# Altium integrated library Dallas Memory Asynchronous FIFO.IntLib: 59 symbols (part 1 of 2)
Pins are listed as number, name and electrical type; pins without a type are passive.

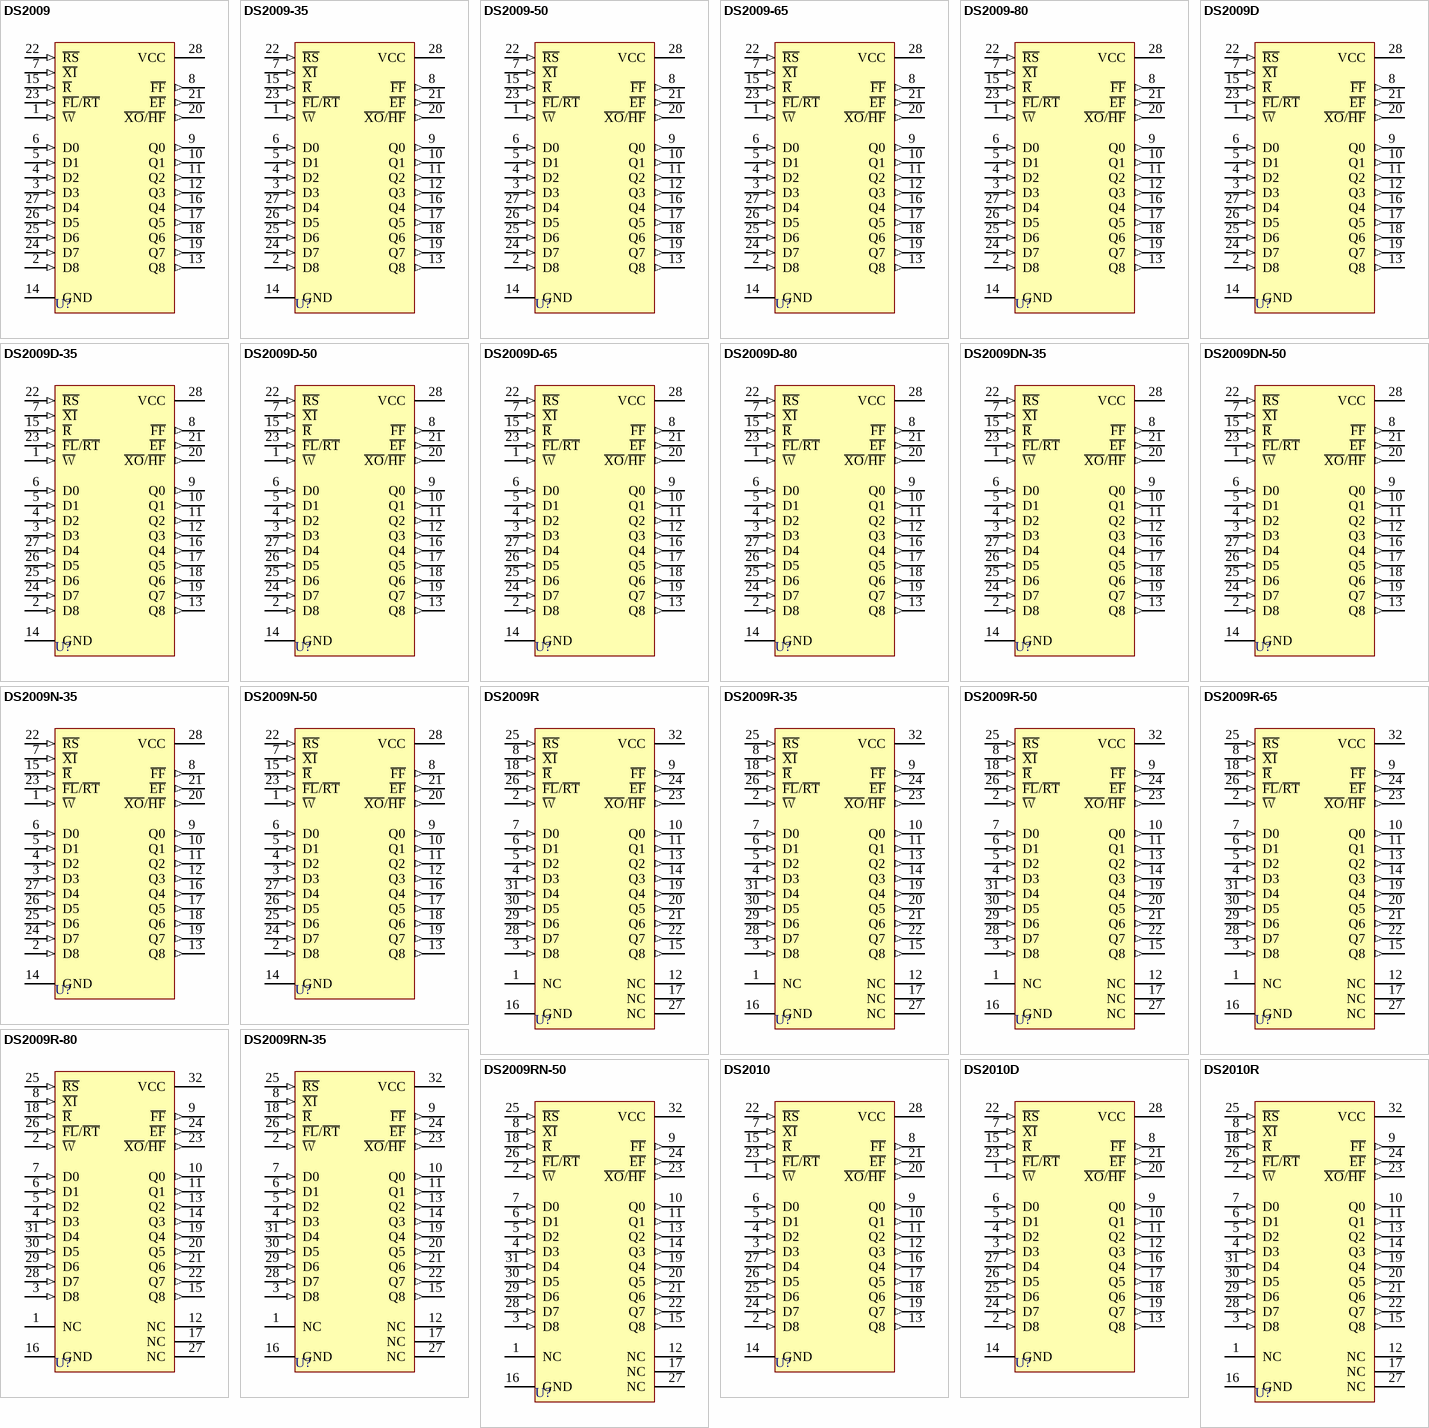
[diagram p0: symbols DS2009 to DS2010R]

## DS2009
designator U?
512 X 9 FIFO Chip; PackageDocument: 1999; Published: 13-Oct-2000; LatestRevisionDate: 06-Jun-2005; LatestRevisionNote: Stylized 3D Model Added.; DatasheetDocument: 29-Jan-1992; PackageReference: DIP28N; Publisher: Altium Limited; ComponentLink1Description: Manufacturer Link; ComponentLink1URL: http://www.maxim-ic.com/
footprint DIP28N (DIP; 28 Leads; Row Spacing 7.62 mm; Pitch 2.54 mm)
3D model DIP28N (DIP; 28 Leads; Row Spacing 7.62 mm; Pitch 2.54 mm)
pins: 1 ~{W} (in), 2 D8 (in), 3 D3 (in), 4 D2 (in), 5 D1 (in), 6 D0 (in), 7 ~{XI} (in), 8 ~{FF} (out), 9 Q0 (out), 10 Q1 (out), 11 Q2 (out), 12 Q3 (out), 13 Q8 (out), 14 GND (power), 15 ~{R} (in), 16 Q4 (out), 17 Q5 (out), 18 Q6 (out), 19 Q7 (out), 20 ~{XO}/~{HF} (out), 21 ~{EF} (out), 22 ~{RS} (in), 23 ~{FL}/~{RT} (in), 24 D7 (in), 25 D6 (in), 26 D5 (in), 27 D4 (in), 28 VCC (power)

## DS2009-35
designator U?
512 X 9 FIFO Chip; PackageDocument: 1999; Published: 13-Oct-2000; LatestRevisionDate: 06-Jun-2005; LatestRevisionNote: Stylized 3D Model Added.; DatasheetDocument: 29-Jan-1992; PackageReference: DIP28N; Publisher: Altium Limited; ComponentLink1Description: Manufacturer Link; ComponentLink1URL: http://www.maxim-ic.com/
footprint DIP28N (DIP; 28 Leads; Row Spacing 7.62 mm; Pitch 2.54 mm)
3D model DIP28N (DIP; 28 Leads; Row Spacing 7.62 mm; Pitch 2.54 mm)
pins: 1 ~{W} (in), 2 D8 (in), 3 D3 (in), 4 D2 (in), 5 D1 (in), 6 D0 (in), 7 ~{XI} (in), 8 ~{FF} (out), 9 Q0 (out), 10 Q1 (out), 11 Q2 (out), 12 Q3 (out), 13 Q8 (out), 14 GND (power), 15 ~{R} (in), 16 Q4 (out), 17 Q5 (out), 18 Q6 (out), 19 Q7 (out), 20 ~{XO}/~{HF} (out), 21 ~{EF} (out), 22 ~{RS} (in), 23 ~{FL}/~{RT} (in), 24 D7 (in), 25 D6 (in), 26 D5 (in), 27 D4 (in), 28 VCC (power)

## DS2009-50
designator U?
512 X 9 FIFO Chip; PackageDocument: 1999; Published: 13-Oct-2000; LatestRevisionDate: 06-Jun-2005; LatestRevisionNote: Stylized 3D Model Added.; DatasheetDocument: 29-Jan-1992; PackageReference: DIP28N; Publisher: Altium Limited; ComponentLink1Description: Manufacturer Link; ComponentLink1URL: http://www.maxim-ic.com/
footprint DIP28N (DIP; 28 Leads; Row Spacing 7.62 mm; Pitch 2.54 mm)
3D model DIP28N (DIP; 28 Leads; Row Spacing 7.62 mm; Pitch 2.54 mm)
pins: 1 ~{W} (in), 2 D8 (in), 3 D3 (in), 4 D2 (in), 5 D1 (in), 6 D0 (in), 7 ~{XI} (in), 8 ~{FF} (out), 9 Q0 (out), 10 Q1 (out), 11 Q2 (out), 12 Q3 (out), 13 Q8 (out), 14 GND (power), 15 ~{R} (in), 16 Q4 (out), 17 Q5 (out), 18 Q6 (out), 19 Q7 (out), 20 ~{XO}/~{HF} (out), 21 ~{EF} (out), 22 ~{RS} (in), 23 ~{FL}/~{RT} (in), 24 D7 (in), 25 D6 (in), 26 D5 (in), 27 D4 (in), 28 VCC (power)

## DS2009-65
designator U?
512 X 9 FIFO Chip; PackageDocument: 1999; Published: 13-Oct-2000; LatestRevisionDate: 06-Jun-2005; LatestRevisionNote: Stylized 3D Model Added.; DatasheetDocument: 29-Jan-1992; PackageReference: DIP28N; Publisher: Altium Limited; ComponentLink1Description: Manufacturer Link; ComponentLink1URL: http://www.maxim-ic.com/
footprint DIP28N (DIP; 28 Leads; Row Spacing 7.62 mm; Pitch 2.54 mm)
3D model DIP28N (DIP; 28 Leads; Row Spacing 7.62 mm; Pitch 2.54 mm)
pins: 1 ~{W} (in), 2 D8 (in), 3 D3 (in), 4 D2 (in), 5 D1 (in), 6 D0 (in), 7 ~{XI} (in), 8 ~{FF} (out), 9 Q0 (out), 10 Q1 (out), 11 Q2 (out), 12 Q3 (out), 13 Q8 (out), 14 GND (power), 15 ~{R} (in), 16 Q4 (out), 17 Q5 (out), 18 Q6 (out), 19 Q7 (out), 20 ~{XO}/~{HF} (out), 21 ~{EF} (out), 22 ~{RS} (in), 23 ~{FL}/~{RT} (in), 24 D7 (in), 25 D6 (in), 26 D5 (in), 27 D4 (in), 28 VCC (power)

## DS2009-80
designator U?
512 X 9 FIFO Chip; PackageDocument: 1999; Published: 13-Oct-2000; LatestRevisionDate: 06-Jun-2005; LatestRevisionNote: Stylized 3D Model Added.; DatasheetDocument: 29-Jan-1992; PackageReference: DIP28N; Publisher: Altium Limited; ComponentLink1Description: Manufacturer Link; ComponentLink1URL: http://www.maxim-ic.com/
footprint DIP28N (DIP; 28 Leads; Row Spacing 7.62 mm; Pitch 2.54 mm)
3D model DIP28N (DIP; 28 Leads; Row Spacing 7.62 mm; Pitch 2.54 mm)
pins: 1 ~{W} (in), 2 D8 (in), 3 D3 (in), 4 D2 (in), 5 D1 (in), 6 D0 (in), 7 ~{XI} (in), 8 ~{FF} (out), 9 Q0 (out), 10 Q1 (out), 11 Q2 (out), 12 Q3 (out), 13 Q8 (out), 14 GND (power), 15 ~{R} (in), 16 Q4 (out), 17 Q5 (out), 18 Q6 (out), 19 Q7 (out), 20 ~{XO}/~{HF} (out), 21 ~{EF} (out), 22 ~{RS} (in), 23 ~{FL}/~{RT} (in), 24 D7 (in), 25 D6 (in), 26 D5 (in), 27 D4 (in), 28 VCC (power)

## DS2009D
designator U?
512 X 9 FIFO Chip; PackageDocument: 1999; Published: 13-Oct-2000; LatestRevisionDate: 06-Jun-2005; LatestRevisionNote: Stylized 3D Model Added.; DatasheetDocument: 29-Jan-1992; PackageReference: DIP28W; Publisher: Altium Limited; ComponentLink1Description: Manufacturer Link; ComponentLink1URL: http://www.maxim-ic.com/
footprint DIP28W (DIP; 28 Leads; Row Spacing 15.24 mm; Pitch 2.54 mm)
3D model DIP28W (DIP; 28 Leads; Row Spacing 15.24 mm; Pitch 2.54 mm)
pins: 1 ~{W} (in), 2 D8 (in), 3 D3 (in), 4 D2 (in), 5 D1 (in), 6 D0 (in), 7 ~{XI} (in), 8 ~{FF} (out), 9 Q0 (out), 10 Q1 (out), 11 Q2 (out), 12 Q3 (out), 13 Q8 (out), 14 GND (power), 15 ~{R} (in), 16 Q4 (out), 17 Q5 (out), 18 Q6 (out), 19 Q7 (out), 20 ~{XO}/~{HF} (out), 21 ~{EF} (out), 22 ~{RS} (in), 23 ~{FL}/~{RT} (in), 24 D7 (in), 25 D6 (in), 26 D5 (in), 27 D4 (in), 28 VCC (power)

## DS2009D-35
designator U?
512 X 9 FIFO Chip; PackageDocument: 1999; Published: 13-Oct-2000; LatestRevisionDate: 06-Jun-2005; LatestRevisionNote: Stylized 3D Model Added.; DatasheetDocument: 29-Jan-1992; PackageReference: DIP28W; Publisher: Altium Limited; ComponentLink1Description: Manufacturer Link; ComponentLink1URL: http://www.maxim-ic.com/
footprint DIP28W (DIP; 28 Leads; Row Spacing 15.24 mm; Pitch 2.54 mm)
3D model DIP28W (DIP; 28 Leads; Row Spacing 15.24 mm; Pitch 2.54 mm)
pins: 1 ~{W} (in), 2 D8 (in), 3 D3 (in), 4 D2 (in), 5 D1 (in), 6 D0 (in), 7 ~{XI} (in), 8 ~{FF} (out), 9 Q0 (out), 10 Q1 (out), 11 Q2 (out), 12 Q3 (out), 13 Q8 (out), 14 GND (power), 15 ~{R} (in), 16 Q4 (out), 17 Q5 (out), 18 Q6 (out), 19 Q7 (out), 20 ~{XO}/~{HF} (out), 21 ~{EF} (out), 22 ~{RS} (in), 23 ~{FL}/~{RT} (in), 24 D7 (in), 25 D6 (in), 26 D5 (in), 27 D4 (in), 28 VCC (power)

## DS2009D-50
designator U?
512 X 9 FIFO Chip; PackageDocument: 1999; Published: 13-Oct-2000; LatestRevisionDate: 06-Jun-2005; LatestRevisionNote: Stylized 3D Model Added.; DatasheetDocument: 29-Jan-1992; PackageReference: DIP28W; Publisher: Altium Limited; ComponentLink1Description: Manufacturer Link; ComponentLink1URL: http://www.maxim-ic.com/
footprint DIP28W (DIP; 28 Leads; Row Spacing 15.24 mm; Pitch 2.54 mm)
3D model DIP28W (DIP; 28 Leads; Row Spacing 15.24 mm; Pitch 2.54 mm)
pins: 1 ~{W} (in), 2 D8 (in), 3 D3 (in), 4 D2 (in), 5 D1 (in), 6 D0 (in), 7 ~{XI} (in), 8 ~{FF} (out), 9 Q0 (out), 10 Q1 (out), 11 Q2 (out), 12 Q3 (out), 13 Q8 (out), 14 GND (power), 15 ~{R} (in), 16 Q4 (out), 17 Q5 (out), 18 Q6 (out), 19 Q7 (out), 20 ~{XO}/~{HF} (out), 21 ~{EF} (out), 22 ~{RS} (in), 23 ~{FL}/~{RT} (in), 24 D7 (in), 25 D6 (in), 26 D5 (in), 27 D4 (in), 28 VCC (power)

## DS2009D-65
designator U?
512 X 9 FIFO Chip; PackageDocument: 1999; Published: 13-Oct-2000; LatestRevisionDate: 06-Jun-2005; LatestRevisionNote: Stylized 3D Model Added.; DatasheetDocument: 29-Jan-1992; PackageReference: DIP28W; Publisher: Altium Limited; ComponentLink1Description: Manufacturer Link; ComponentLink1URL: http://www.maxim-ic.com/
footprint DIP28W (DIP; 28 Leads; Row Spacing 15.24 mm; Pitch 2.54 mm)
3D model DIP28W (DIP; 28 Leads; Row Spacing 15.24 mm; Pitch 2.54 mm)
pins: 1 ~{W} (in), 2 D8 (in), 3 D3 (in), 4 D2 (in), 5 D1 (in), 6 D0 (in), 7 ~{XI} (in), 8 ~{FF} (out), 9 Q0 (out), 10 Q1 (out), 11 Q2 (out), 12 Q3 (out), 13 Q8 (out), 14 GND (power), 15 ~{R} (in), 16 Q4 (out), 17 Q5 (out), 18 Q6 (out), 19 Q7 (out), 20 ~{XO}/~{HF} (out), 21 ~{EF} (out), 22 ~{RS} (in), 23 ~{FL}/~{RT} (in), 24 D7 (in), 25 D6 (in), 26 D5 (in), 27 D4 (in), 28 VCC (power)

## DS2009D-80
designator U?
512 X 9 FIFO Chip; PackageDocument: 1999; Published: 13-Oct-2000; LatestRevisionDate: 06-Jun-2005; LatestRevisionNote: Stylized 3D Model Added.; DatasheetDocument: 29-Jan-1992; PackageReference: DIP28W; Publisher: Altium Limited; ComponentLink1Description: Manufacturer Link; ComponentLink1URL: http://www.maxim-ic.com/
footprint DIP28W (DIP; 28 Leads; Row Spacing 15.24 mm; Pitch 2.54 mm)
3D model DIP28W (DIP; 28 Leads; Row Spacing 15.24 mm; Pitch 2.54 mm)
pins: 1 ~{W} (in), 2 D8 (in), 3 D3 (in), 4 D2 (in), 5 D1 (in), 6 D0 (in), 7 ~{XI} (in), 8 ~{FF} (out), 9 Q0 (out), 10 Q1 (out), 11 Q2 (out), 12 Q3 (out), 13 Q8 (out), 14 GND (power), 15 ~{R} (in), 16 Q4 (out), 17 Q5 (out), 18 Q6 (out), 19 Q7 (out), 20 ~{XO}/~{HF} (out), 21 ~{EF} (out), 22 ~{RS} (in), 23 ~{FL}/~{RT} (in), 24 D7 (in), 25 D6 (in), 26 D5 (in), 27 D4 (in), 28 VCC (power)

## DS2009DN-35
designator U?
512 X 9 FIFO Chip; PackageDocument: 1999; Published: 13-Oct-2000; LatestRevisionDate: 06-Jun-2005; LatestRevisionNote: Stylized 3D Model Added.; DatasheetDocument: 29-Jan-1992; PackageReference: DIP28N; Publisher: Altium Limited; ComponentLink1Description: Manufacturer Link; ComponentLink1URL: http://www.maxim-ic.com/
footprint DIP28N (DIP; 28 Leads; Row Spacing 7.62 mm; Pitch 2.54 mm)
3D model DIP28N (DIP; 28 Leads; Row Spacing 7.62 mm; Pitch 2.54 mm)
pins: 1 ~{W} (in), 2 D8 (in), 3 D3 (in), 4 D2 (in), 5 D1 (in), 6 D0 (in), 7 ~{XI} (in), 8 ~{FF} (out), 9 Q0 (out), 10 Q1 (out), 11 Q2 (out), 12 Q3 (out), 13 Q8 (out), 14 GND (power), 15 ~{R} (in), 16 Q4 (out), 17 Q5 (out), 18 Q6 (out), 19 Q7 (out), 20 ~{XO}/~{HF} (out), 21 ~{EF} (out), 22 ~{RS} (in), 23 ~{FL}/~{RT} (in), 24 D7 (in), 25 D6 (in), 26 D5 (in), 27 D4 (in), 28 VCC (power)

## DS2009DN-50
designator U?
512 X 9 FIFO Chip; PackageDocument: 1999; Published: 13-Oct-2000; LatestRevisionDate: 06-Jun-2005; LatestRevisionNote: Stylized 3D Model Added.; DatasheetDocument: 29-Jan-1992; PackageReference: DIP28N; Publisher: Altium Limited; ComponentLink1Description: Manufacturer Link; ComponentLink1URL: http://www.maxim-ic.com/
footprint DIP28N (DIP; 28 Leads; Row Spacing 7.62 mm; Pitch 2.54 mm)
3D model DIP28N (DIP; 28 Leads; Row Spacing 7.62 mm; Pitch 2.54 mm)
pins: 1 ~{W} (in), 2 D8 (in), 3 D3 (in), 4 D2 (in), 5 D1 (in), 6 D0 (in), 7 ~{XI} (in), 8 ~{FF} (out), 9 Q0 (out), 10 Q1 (out), 11 Q2 (out), 12 Q3 (out), 13 Q8 (out), 14 GND (power), 15 ~{R} (in), 16 Q4 (out), 17 Q5 (out), 18 Q6 (out), 19 Q7 (out), 20 ~{XO}/~{HF} (out), 21 ~{EF} (out), 22 ~{RS} (in), 23 ~{FL}/~{RT} (in), 24 D7 (in), 25 D6 (in), 26 D5 (in), 27 D4 (in), 28 VCC (power)

## DS2009N-35
designator U?
512 X 9 FIFO Chip; PackageDocument: 1999; Published: 13-Oct-2000; LatestRevisionDate: 06-Jun-2005; LatestRevisionNote: Stylized 3D Model Added.; DatasheetDocument: 29-Jan-1992; PackageReference: DIP28N; Publisher: Altium Limited; ComponentLink1Description: Manufacturer Link; ComponentLink1URL: http://www.maxim-ic.com/
footprint DIP28N (DIP; 28 Leads; Row Spacing 7.62 mm; Pitch 2.54 mm)
3D model DIP28N (DIP; 28 Leads; Row Spacing 7.62 mm; Pitch 2.54 mm)
pins: 1 ~{W} (in), 2 D8 (in), 3 D3 (in), 4 D2 (in), 5 D1 (in), 6 D0 (in), 7 ~{XI} (in), 8 ~{FF} (out), 9 Q0 (out), 10 Q1 (out), 11 Q2 (out), 12 Q3 (out), 13 Q8 (out), 14 GND (power), 15 ~{R} (in), 16 Q4 (out), 17 Q5 (out), 18 Q6 (out), 19 Q7 (out), 20 ~{XO}/~{HF} (out), 21 ~{EF} (out), 22 ~{RS} (in), 23 ~{FL}/~{RT} (in), 24 D7 (in), 25 D6 (in), 26 D5 (in), 27 D4 (in), 28 VCC (power)

## DS2009N-50
designator U?
512 X 9 FIFO Chip; PackageDocument: 1999; Published: 13-Oct-2000; LatestRevisionDate: 06-Jun-2005; LatestRevisionNote: Stylized 3D Model Added.; DatasheetDocument: 29-Jan-1992; PackageReference: DIP28N; Publisher: Altium Limited; ComponentLink1Description: Manufacturer Link; ComponentLink1URL: http://www.maxim-ic.com/
footprint DIP28N (DIP; 28 Leads; Row Spacing 7.62 mm; Pitch 2.54 mm)
3D model DIP28N (DIP; 28 Leads; Row Spacing 7.62 mm; Pitch 2.54 mm)
pins: 1 ~{W} (in), 2 D8 (in), 3 D3 (in), 4 D2 (in), 5 D1 (in), 6 D0 (in), 7 ~{XI} (in), 8 ~{FF} (out), 9 Q0 (out), 10 Q1 (out), 11 Q2 (out), 12 Q3 (out), 13 Q8 (out), 14 GND (power), 15 ~{R} (in), 16 Q4 (out), 17 Q5 (out), 18 Q6 (out), 19 Q7 (out), 20 ~{XO}/~{HF} (out), 21 ~{EF} (out), 22 ~{RS} (in), 23 ~{FL}/~{RT} (in), 24 D7 (in), 25 D6 (in), 26 D5 (in), 27 D4 (in), 28 VCC (power)

## DS2009R
designator U?
512 X 9 FIFO Chip; Note: Pin numbers 1, 12, 17 and 27 are Not Connected (NC); Published: 13-Oct-2000; LatestRevisionDate: 17-Jul-2002; LatestRevisionNote: Re-released for DXP Platform.; DatasheetDocument: 29-Jan-1992; PackageDocument: Feb-1999; PackageReference: PLCC32; Publisher: Altium Limited; Code_JEDEC: MS-016-AE; Code_IPC: PLCC/R-32; ComponentLink1Description: Manufacturer Link; ComponentLink1URL: http://www.maxim-ic.com/
footprint PLCC32 (Leaded Chip Carrier; 32 Leads; Pitch 1.27 mm)
pins: 1 NC, 2 ~{W} (in), 3 D8 (in), 4 D3 (in), 5 D2 (in), 6 D1 (in), 7 D0 (in), 8 ~{XI} (in), 9 ~{FF} (out), 10 Q0 (out), 11 Q1 (out), 12 NC, 13 Q2 (out), 14 Q3 (out), 15 Q8 (out), 16 GND (power), 17 NC, 18 ~{R} (in), 19 Q4 (out), 20 Q5 (out), 21 Q6 (out), 22 Q7 (out), 23 ~{XO}/~{HF} (out), 24 ~{EF} (out), 25 ~{RS} (in), 26 ~{FL}/~{RT} (in), 27 NC, 28 D7 (in), 29 D6 (in), 30 D5 (in), 31 D4 (in), 32 VCC (power)

## DS2009R-35
designator U?
512 X 9 FIFO Chip; Note: Pin numbers 1, 12, 17 and 27 are Not Connected (NC); Published: 13-Oct-2000; LatestRevisionDate: 17-Jul-2002; LatestRevisionNote: Re-released for DXP Platform.; DatasheetDocument: 29-Jan-1992; PackageDocument: Feb-1999; PackageReference: PLCC32; Publisher: Altium Limited; Code_JEDEC: MS-016-AE; Code_IPC: PLCC/R-32; ComponentLink1Description: Manufacturer Link; ComponentLink1URL: http://www.maxim-ic.com/
footprint PLCC32 (Leaded Chip Carrier; 32 Leads; Pitch 1.27 mm)
pins: 1 NC, 2 ~{W} (in), 3 D8 (in), 4 D3 (in), 5 D2 (in), 6 D1 (in), 7 D0 (in), 8 ~{XI} (in), 9 ~{FF} (out), 10 Q0 (out), 11 Q1 (out), 12 NC, 13 Q2 (out), 14 Q3 (out), 15 Q8 (out), 16 GND (power), 17 NC, 18 ~{R} (in), 19 Q4 (out), 20 Q5 (out), 21 Q6 (out), 22 Q7 (out), 23 ~{XO}/~{HF} (out), 24 ~{EF} (out), 25 ~{RS} (in), 26 ~{FL}/~{RT} (in), 27 NC, 28 D7 (in), 29 D6 (in), 30 D5 (in), 31 D4 (in), 32 VCC (power)

## DS2009R-50
designator U?
512 X 9 FIFO Chip; Note: Pin numbers 1, 12, 17 and 27 are Not Connected (NC); Published: 13-Oct-2000; LatestRevisionDate: 17-Jul-2002; LatestRevisionNote: Re-released for DXP Platform.; DatasheetDocument: 29-Jan-1992; PackageDocument: Feb-1999; PackageReference: PLCC32; Publisher: Altium Limited; Code_JEDEC: MS-016-AE; Code_IPC: PLCC/R-32; ComponentLink1Description: Manufacturer Link; ComponentLink1URL: http://www.maxim-ic.com/
footprint PLCC32 (Leaded Chip Carrier; 32 Leads; Pitch 1.27 mm)
pins: 1 NC, 2 ~{W} (in), 3 D8 (in), 4 D3 (in), 5 D2 (in), 6 D1 (in), 7 D0 (in), 8 ~{XI} (in), 9 ~{FF} (out), 10 Q0 (out), 11 Q1 (out), 12 NC, 13 Q2 (out), 14 Q3 (out), 15 Q8 (out), 16 GND (power), 17 NC, 18 ~{R} (in), 19 Q4 (out), 20 Q5 (out), 21 Q6 (out), 22 Q7 (out), 23 ~{XO}/~{HF} (out), 24 ~{EF} (out), 25 ~{RS} (in), 26 ~{FL}/~{RT} (in), 27 NC, 28 D7 (in), 29 D6 (in), 30 D5 (in), 31 D4 (in), 32 VCC (power)

## DS2009R-65
designator U?
512 X 9 FIFO Chip; Note: Pin numbers 1, 12, 17 and 27 are Not Connected (NC); Published: 13-Oct-2000; LatestRevisionDate: 17-Jul-2002; LatestRevisionNote: Re-released for DXP Platform.; DatasheetDocument: 29-Jan-1992; PackageDocument: Feb-1999; PackageReference: PLCC32; Publisher: Altium Limited; Code_JEDEC: MS-016-AE; Code_IPC: PLCC/R-32; ComponentLink1Description: Manufacturer Link; ComponentLink1URL: http://www.maxim-ic.com/
footprint PLCC32 (Leaded Chip Carrier; 32 Leads; Pitch 1.27 mm)
pins: 1 NC, 2 ~{W} (in), 3 D8 (in), 4 D3 (in), 5 D2 (in), 6 D1 (in), 7 D0 (in), 8 ~{XI} (in), 9 ~{FF} (out), 10 Q0 (out), 11 Q1 (out), 12 NC, 13 Q2 (out), 14 Q3 (out), 15 Q8 (out), 16 GND (power), 17 NC, 18 ~{R} (in), 19 Q4 (out), 20 Q5 (out), 21 Q6 (out), 22 Q7 (out), 23 ~{XO}/~{HF} (out), 24 ~{EF} (out), 25 ~{RS} (in), 26 ~{FL}/~{RT} (in), 27 NC, 28 D7 (in), 29 D6 (in), 30 D5 (in), 31 D4 (in), 32 VCC (power)

## DS2009R-80
designator U?
512 X 9 FIFO Chip; Note: Pin numbers 1, 12, 17 and 27 are Not Connected (NC); Published: 13-Oct-2000; LatestRevisionDate: 17-Jul-2002; LatestRevisionNote: Re-released for DXP Platform.; DatasheetDocument: 29-Jan-1992; PackageDocument: Feb-1999; PackageReference: PLCC32; Publisher: Altium Limited; Code_JEDEC: MS-016-AE; Code_IPC: PLCC/R-32; ComponentLink1Description: Manufacturer Link; ComponentLink1URL: http://www.maxim-ic.com/
footprint PLCC32 (Leaded Chip Carrier; 32 Leads; Pitch 1.27 mm)
pins: 1 NC, 2 ~{W} (in), 3 D8 (in), 4 D3 (in), 5 D2 (in), 6 D1 (in), 7 D0 (in), 8 ~{XI} (in), 9 ~{FF} (out), 10 Q0 (out), 11 Q1 (out), 12 NC, 13 Q2 (out), 14 Q3 (out), 15 Q8 (out), 16 GND (power), 17 NC, 18 ~{R} (in), 19 Q4 (out), 20 Q5 (out), 21 Q6 (out), 22 Q7 (out), 23 ~{XO}/~{HF} (out), 24 ~{EF} (out), 25 ~{RS} (in), 26 ~{FL}/~{RT} (in), 27 NC, 28 D7 (in), 29 D6 (in), 30 D5 (in), 31 D4 (in), 32 VCC (power)

## DS2009RN-35
designator U?
512 X 9 FIFO Chip; Note: Pin numbers 1, 12, 17 and 27 are Not Connected (NC); Published: 13-Oct-2000; LatestRevisionDate: 17-Jul-2002; LatestRevisionNote: Re-released for DXP Platform.; DatasheetDocument: 29-Jan-1992; PackageDocument: Feb-1999; PackageReference: PLCC32; Publisher: Altium Limited; Code_JEDEC: MS-016-AE; Code_IPC: PLCC/R-32; ComponentLink1Description: Manufacturer Link; ComponentLink1URL: http://www.maxim-ic.com/
footprint PLCC32 (Leaded Chip Carrier; 32 Leads; Pitch 1.27 mm)
pins: 1 NC, 2 ~{W} (in), 3 D8 (in), 4 D3 (in), 5 D2 (in), 6 D1 (in), 7 D0 (in), 8 ~{XI} (in), 9 ~{FF} (out), 10 Q0 (out), 11 Q1 (out), 12 NC, 13 Q2 (out), 14 Q3 (out), 15 Q8 (out), 16 GND (power), 17 NC, 18 ~{R} (in), 19 Q4 (out), 20 Q5 (out), 21 Q6 (out), 22 Q7 (out), 23 ~{XO}/~{HF} (out), 24 ~{EF} (out), 25 ~{RS} (in), 26 ~{FL}/~{RT} (in), 27 NC, 28 D7 (in), 29 D6 (in), 30 D5 (in), 31 D4 (in), 32 VCC (power)

## DS2009RN-50
designator U?
512 X 9 FIFO Chip; Note: Pin numbers 1, 12, 17 and 27 are Not Connected (NC); Published: 13-Oct-2000; LatestRevisionDate: 17-Jul-2002; LatestRevisionNote: Re-released for DXP Platform.; DatasheetDocument: 29-Jan-1992; PackageDocument: Feb-1999; PackageReference: PLCC32; Publisher: Altium Limited; Code_JEDEC: MS-016-AE; Code_IPC: PLCC/R-32; ComponentLink1Description: Manufacturer Link; ComponentLink1URL: http://www.maxim-ic.com/
footprint PLCC32 (Leaded Chip Carrier; 32 Leads; Pitch 1.27 mm)
pins: 1 NC, 2 ~{W} (in), 3 D8 (in), 4 D3 (in), 5 D2 (in), 6 D1 (in), 7 D0 (in), 8 ~{XI} (in), 9 ~{FF} (out), 10 Q0 (out), 11 Q1 (out), 12 NC, 13 Q2 (out), 14 Q3 (out), 15 Q8 (out), 16 GND (power), 17 NC, 18 ~{R} (in), 19 Q4 (out), 20 Q5 (out), 21 Q6 (out), 22 Q7 (out), 23 ~{XO}/~{HF} (out), 24 ~{EF} (out), 25 ~{RS} (in), 26 ~{FL}/~{RT} (in), 27 NC, 28 D7 (in), 29 D6 (in), 30 D5 (in), 31 D4 (in), 32 VCC (power)

## DS2010
designator U?
1024 x 9 FIFO Chip; PackageDocument: 1999; Published: 13-Oct-2000; LatestRevisionDate: 06-Jun-2005; LatestRevisionNote: Stylized 3D Model Added.; DatasheetDocument: 19-May-1994; PackageReference: DIP28W; Publisher: Altium Limited; ComponentLink1Description: Manufacturer Link; ComponentLink1URL: http://www.maxim-ic.com/
footprint DIP28W (DIP; 28 Leads; Row Spacing 15.24 mm; Pitch 2.54 mm)
3D model DIP28W (DIP; 28 Leads; Row Spacing 15.24 mm; Pitch 2.54 mm)
pins: 1 ~{W} (in), 2 D8 (in), 3 D3 (in), 4 D2 (in), 5 D1 (in), 6 D0 (in), 7 ~{XI} (in), 8 ~{FF} (out), 9 Q0 (out), 10 Q1 (out), 11 Q2 (out), 12 Q3 (out), 13 Q8 (out), 14 GND (power), 15 ~{R} (in), 16 Q4 (out), 17 Q5 (out), 18 Q6 (out), 19 Q7 (out), 20 ~{XO}/~{HF} (out), 21 ~{EF} (out), 22 ~{RS} (in), 23 ~{FL}/~{RT} (in), 24 D7 (in), 25 D6 (in), 26 D5 (in), 27 D4 (in), 28 VCC (power)

## DS2010D
designator U?
1024 x 9 FIFO Chip; PackageDocument: 1999; Published: 13-Oct-2000; LatestRevisionDate: 06-Jun-2005; LatestRevisionNote: Stylized 3D Model Added.; DatasheetDocument: 19-May-1994; PackageReference: DIP28N; Publisher: Altium Limited; ComponentLink1Description: Manufacturer Link; ComponentLink1URL: http://www.maxim-ic.com/
footprint DIP28N (DIP; 28 Leads; Row Spacing 7.62 mm; Pitch 2.54 mm)
3D model DIP28N (DIP; 28 Leads; Row Spacing 7.62 mm; Pitch 2.54 mm)
pins: 1 ~{W} (in), 2 D8 (in), 3 D3 (in), 4 D2 (in), 5 D1 (in), 6 D0 (in), 7 ~{XI} (in), 8 ~{FF} (out), 9 Q0 (out), 10 Q1 (out), 11 Q2 (out), 12 Q3 (out), 13 Q8 (out), 14 GND (power), 15 ~{R} (in), 16 Q4 (out), 17 Q5 (out), 18 Q6 (out), 19 Q7 (out), 20 ~{XO}/~{HF} (out), 21 ~{EF} (out), 22 ~{RS} (in), 23 ~{FL}/~{RT} (in), 24 D7 (in), 25 D6 (in), 26 D5 (in), 27 D4 (in), 28 VCC (power)

## DS2010R
designator U?
1024 x 9 FIFO Chip; Note: Pin numbers 1, 12, 17 and 27 are Not Connected (NC); Published: 13-Oct-2000; LatestRevisionDate: 17-Jul-2002; LatestRevisionNote: Re-released for DXP Platform.; DatasheetDocument: 19-May-1994; PackageDocument: Feb-1999; PackageReference: PLCC32; Publisher: Altium Limited; Code_JEDEC: MS-016-AE; Code_IPC: PLCC/R-32; ComponentLink1Description: Manufacturer Link; ComponentLink1URL: http://www.maxim-ic.com/
footprint PLCC32 (Leaded Chip Carrier; 32 Leads; Pitch 1.27 mm)
pins: 1 NC, 2 ~{W} (in), 3 D8 (in), 4 D3 (in), 5 D2 (in), 6 D1 (in), 7 D0 (in), 8 ~{XI} (in), 9 ~{FF} (out), 10 Q0 (out), 11 Q1 (out), 12 NC, 13 Q2 (out), 14 Q3 (out), 15 Q8 (out), 16 GND (power), 17 NC, 18 ~{R} (in), 19 Q4 (out), 20 Q5 (out), 21 Q6 (out), 22 Q7 (out), 23 ~{XO}/~{HF} (out), 24 ~{EF} (out), 25 ~{RS} (in), 26 ~{FL}/~{RT} (in), 27 NC, 28 D7 (in), 29 D6 (in), 30 D5 (in), 31 D4 (in), 32 VCC (power)

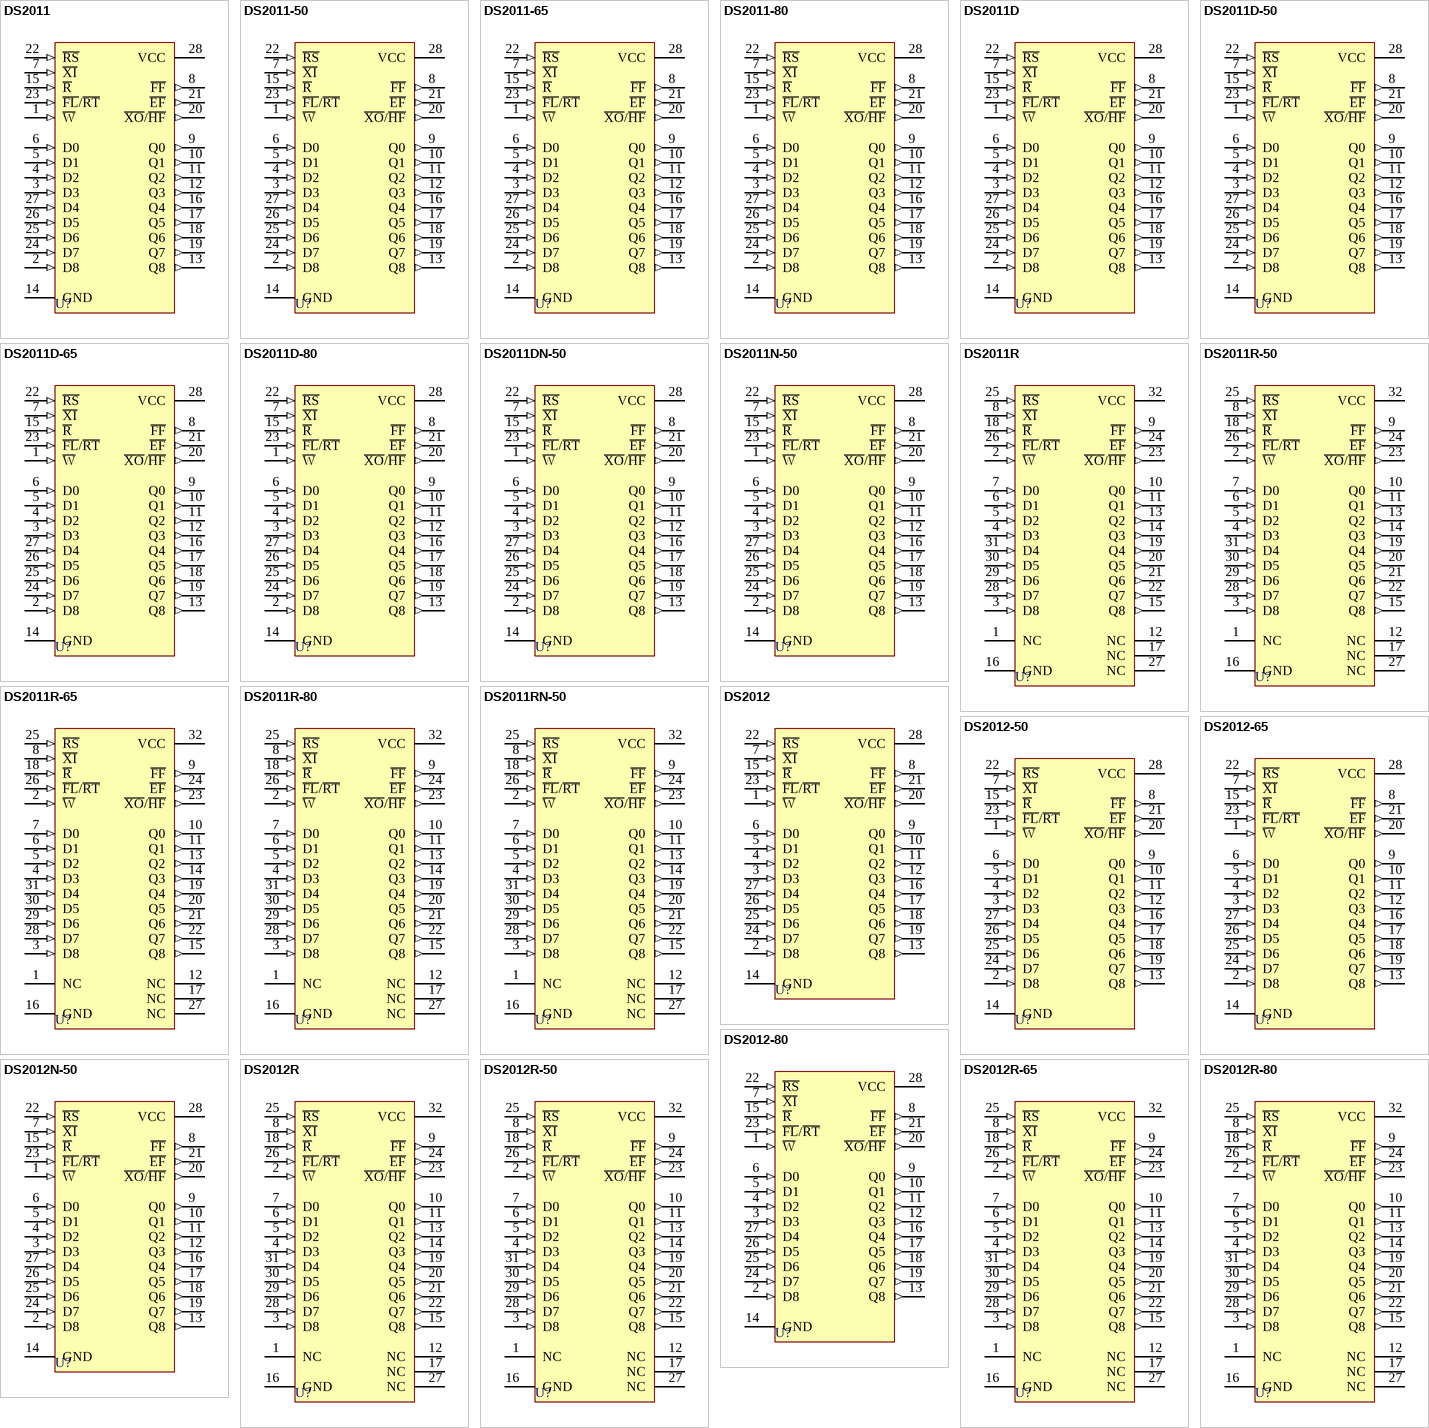
[diagram p1: symbols DS2011 to DS2012R-80]

## DS2011
designator U?
2048 X 9 FIFO Chip; PackageDocument: 1999; Published: 13-Oct-2000; LatestRevisionDate: 06-Jun-2005; LatestRevisionNote: Stylized 3D Model Added.; DatasheetDocument: 19-May-1994; PackageReference: DIP28W; Publisher: Altium Limited; ComponentLink1Description: Manufacturer Link; ComponentLink1URL: http://www.maxim-ic.com/
footprint DIP28W (DIP; 28 Leads; Row Spacing 15.24 mm; Pitch 2.54 mm)
3D model DIP28W (DIP; 28 Leads; Row Spacing 15.24 mm; Pitch 2.54 mm)
pins: 1 ~{W} (in), 2 D8 (in), 3 D3 (in), 4 D2 (in), 5 D1 (in), 6 D0 (in), 7 ~{XI} (in), 8 ~{FF} (out), 9 Q0 (out), 10 Q1 (out), 11 Q2 (out), 12 Q3 (out), 13 Q8 (out), 14 GND (power), 15 ~{R} (in), 16 Q4 (out), 17 Q5 (out), 18 Q6 (out), 19 Q7 (out), 20 ~{XO}/~{HF} (out), 21 ~{EF} (out), 22 ~{RS} (in), 23 ~{FL}/~{RT} (in), 24 D7 (in), 25 D6 (in), 26 D5 (in), 27 D4 (in), 28 VCC (power)

## DS2011-50
designator U?
2048 X 9 FIFO Chip; PackageDocument: 1999; Published: 13-Oct-2000; LatestRevisionDate: 06-Jun-2005; LatestRevisionNote: Stylized 3D Model Added.; DatasheetDocument: 19-May-1994; PackageReference: DIP28W; Publisher: Altium Limited; ComponentLink1Description: Manufacturer Link; ComponentLink1URL: http://www.maxim-ic.com/
footprint DIP28W (DIP; 28 Leads; Row Spacing 15.24 mm; Pitch 2.54 mm)
3D model DIP28W (DIP; 28 Leads; Row Spacing 15.24 mm; Pitch 2.54 mm)
pins: 1 ~{W} (in), 2 D8 (in), 3 D3 (in), 4 D2 (in), 5 D1 (in), 6 D0 (in), 7 ~{XI} (in), 8 ~{FF} (out), 9 Q0 (out), 10 Q1 (out), 11 Q2 (out), 12 Q3 (out), 13 Q8 (out), 14 GND (power), 15 ~{R} (in), 16 Q4 (out), 17 Q5 (out), 18 Q6 (out), 19 Q7 (out), 20 ~{XO}/~{HF} (out), 21 ~{EF} (out), 22 ~{RS} (in), 23 ~{FL}/~{RT} (in), 24 D7 (in), 25 D6 (in), 26 D5 (in), 27 D4 (in), 28 VCC (power)

## DS2011-65
designator U?
2048 X 9 FIFO Chip; PackageDocument: 1999; Published: 13-Oct-2000; LatestRevisionDate: 06-Jun-2005; LatestRevisionNote: Stylized 3D Model Added.; DatasheetDocument: 19-May-1994; PackageReference: DIP28W; Publisher: Altium Limited; ComponentLink1Description: Manufacturer Link; ComponentLink1URL: http://www.maxim-ic.com/
footprint DIP28W (DIP; 28 Leads; Row Spacing 15.24 mm; Pitch 2.54 mm)
3D model DIP28W (DIP; 28 Leads; Row Spacing 15.24 mm; Pitch 2.54 mm)
pins: 1 ~{W} (in), 2 D8 (in), 3 D3 (in), 4 D2 (in), 5 D1 (in), 6 D0 (in), 7 ~{XI} (in), 8 ~{FF} (out), 9 Q0 (out), 10 Q1 (out), 11 Q2 (out), 12 Q3 (out), 13 Q8 (out), 14 GND (power), 15 ~{R} (in), 16 Q4 (out), 17 Q5 (out), 18 Q6 (out), 19 Q7 (out), 20 ~{XO}/~{HF} (out), 21 ~{EF} (out), 22 ~{RS} (in), 23 ~{FL}/~{RT} (in), 24 D7 (in), 25 D6 (in), 26 D5 (in), 27 D4 (in), 28 VCC (power)

## DS2011-80
designator U?
2048 X 9 FIFO Chip; PackageDocument: 1999; Published: 13-Oct-2000; LatestRevisionDate: 06-Jun-2005; LatestRevisionNote: Stylized 3D Model Added.; DatasheetDocument: 19-May-1994; PackageReference: DIP28W; Publisher: Altium Limited; ComponentLink1Description: Manufacturer Link; ComponentLink1URL: http://www.maxim-ic.com/
footprint DIP28W (DIP; 28 Leads; Row Spacing 15.24 mm; Pitch 2.54 mm)
3D model DIP28W (DIP; 28 Leads; Row Spacing 15.24 mm; Pitch 2.54 mm)
pins: 1 ~{W} (in), 2 D8 (in), 3 D3 (in), 4 D2 (in), 5 D1 (in), 6 D0 (in), 7 ~{XI} (in), 8 ~{FF} (out), 9 Q0 (out), 10 Q1 (out), 11 Q2 (out), 12 Q3 (out), 13 Q8 (out), 14 GND (power), 15 ~{R} (in), 16 Q4 (out), 17 Q5 (out), 18 Q6 (out), 19 Q7 (out), 20 ~{XO}/~{HF} (out), 21 ~{EF} (out), 22 ~{RS} (in), 23 ~{FL}/~{RT} (in), 24 D7 (in), 25 D6 (in), 26 D5 (in), 27 D4 (in), 28 VCC (power)

## DS2011D
designator U?
2048 X 9 FIFO Chip; PackageDocument: 1999; Published: 13-Oct-2000; LatestRevisionDate: 06-Jun-2005; LatestRevisionNote: Stylized 3D Model Added.; DatasheetDocument: 19-May-1994; PackageReference: DIP28N; Publisher: Altium Limited; ComponentLink1Description: Manufacturer Link; ComponentLink1URL: http://www.maxim-ic.com/
footprint DIP28N (DIP; 28 Leads; Row Spacing 7.62 mm; Pitch 2.54 mm)
3D model DIP28N (DIP; 28 Leads; Row Spacing 7.62 mm; Pitch 2.54 mm)
pins: 1 ~{W} (in), 2 D8 (in), 3 D3 (in), 4 D2 (in), 5 D1 (in), 6 D0 (in), 7 ~{XI} (in), 8 ~{FF} (out), 9 Q0 (out), 10 Q1 (out), 11 Q2 (out), 12 Q3 (out), 13 Q8 (out), 14 GND (power), 15 ~{R} (in), 16 Q4 (out), 17 Q5 (out), 18 Q6 (out), 19 Q7 (out), 20 ~{XO}/~{HF} (out), 21 ~{EF} (out), 22 ~{RS} (in), 23 ~{FL}/~{RT} (in), 24 D7 (in), 25 D6 (in), 26 D5 (in), 27 D4 (in), 28 VCC (power)

## DS2011D-50
designator U?
2048 X 9 FIFO Chip; PackageDocument: 1999; Published: 13-Oct-2000; LatestRevisionDate: 06-Jun-2005; LatestRevisionNote: Stylized 3D Model Added.; DatasheetDocument: 19-May-1994; PackageReference: DIP28N; Publisher: Altium Limited; ComponentLink1Description: Manufacturer Link; ComponentLink1URL: http://www.maxim-ic.com/
footprint DIP28N (DIP; 28 Leads; Row Spacing 7.62 mm; Pitch 2.54 mm)
3D model DIP28N (DIP; 28 Leads; Row Spacing 7.62 mm; Pitch 2.54 mm)
pins: 1 ~{W} (in), 2 D8 (in), 3 D3 (in), 4 D2 (in), 5 D1 (in), 6 D0 (in), 7 ~{XI} (in), 8 ~{FF} (out), 9 Q0 (out), 10 Q1 (out), 11 Q2 (out), 12 Q3 (out), 13 Q8 (out), 14 GND (power), 15 ~{R} (in), 16 Q4 (out), 17 Q5 (out), 18 Q6 (out), 19 Q7 (out), 20 ~{XO}/~{HF} (out), 21 ~{EF} (out), 22 ~{RS} (in), 23 ~{FL}/~{RT} (in), 24 D7 (in), 25 D6 (in), 26 D5 (in), 27 D4 (in), 28 VCC (power)

## DS2011D-65
designator U?
2048 X 9 FIFO Chip; PackageDocument: 1999; Published: 13-Oct-2000; LatestRevisionDate: 06-Jun-2005; LatestRevisionNote: Stylized 3D Model Added.; DatasheetDocument: 19-May-1994; PackageReference: DIP28N; Publisher: Altium Limited; ComponentLink1Description: Manufacturer Link; ComponentLink1URL: http://www.maxim-ic.com/
footprint DIP28N (DIP; 28 Leads; Row Spacing 7.62 mm; Pitch 2.54 mm)
3D model DIP28N (DIP; 28 Leads; Row Spacing 7.62 mm; Pitch 2.54 mm)
pins: 1 ~{W} (in), 2 D8 (in), 3 D3 (in), 4 D2 (in), 5 D1 (in), 6 D0 (in), 7 ~{XI} (in), 8 ~{FF} (out), 9 Q0 (out), 10 Q1 (out), 11 Q2 (out), 12 Q3 (out), 13 Q8 (out), 14 GND (power), 15 ~{R} (in), 16 Q4 (out), 17 Q5 (out), 18 Q6 (out), 19 Q7 (out), 20 ~{XO}/~{HF} (out), 21 ~{EF} (out), 22 ~{RS} (in), 23 ~{FL}/~{RT} (in), 24 D7 (in), 25 D6 (in), 26 D5 (in), 27 D4 (in), 28 VCC (power)

## DS2011D-80
designator U?
2048 X 9 FIFO Chip; PackageDocument: 1999; Published: 13-Oct-2000; LatestRevisionDate: 06-Jun-2005; LatestRevisionNote: Stylized 3D Model Added.; DatasheetDocument: 19-May-1994; PackageReference: DIP28N; Publisher: Altium Limited; ComponentLink1Description: Manufacturer Link; ComponentLink1URL: http://www.maxim-ic.com/
footprint DIP28N (DIP; 28 Leads; Row Spacing 7.62 mm; Pitch 2.54 mm)
3D model DIP28N (DIP; 28 Leads; Row Spacing 7.62 mm; Pitch 2.54 mm)
pins: 1 ~{W} (in), 2 D8 (in), 3 D3 (in), 4 D2 (in), 5 D1 (in), 6 D0 (in), 7 ~{XI} (in), 8 ~{FF} (out), 9 Q0 (out), 10 Q1 (out), 11 Q2 (out), 12 Q3 (out), 13 Q8 (out), 14 GND (power), 15 ~{R} (in), 16 Q4 (out), 17 Q5 (out), 18 Q6 (out), 19 Q7 (out), 20 ~{XO}/~{HF} (out), 21 ~{EF} (out), 22 ~{RS} (in), 23 ~{FL}/~{RT} (in), 24 D7 (in), 25 D6 (in), 26 D5 (in), 27 D4 (in), 28 VCC (power)

## DS2011DN-50
designator U?
2048 X 9 FIFO Chip; PackageDocument: 1999; Published: 13-Oct-2000; LatestRevisionDate: 06-Jun-2005; LatestRevisionNote: Stylized 3D Model Added.; DatasheetDocument: 19-May-1994; PackageReference: DIP28N; Publisher: Altium Limited; ComponentLink1Description: Manufacturer Link; ComponentLink1URL: http://www.maxim-ic.com/
footprint DIP28N (DIP; 28 Leads; Row Spacing 7.62 mm; Pitch 2.54 mm)
3D model DIP28N (DIP; 28 Leads; Row Spacing 7.62 mm; Pitch 2.54 mm)
pins: 1 ~{W} (in), 2 D8 (in), 3 D3 (in), 4 D2 (in), 5 D1 (in), 6 D0 (in), 7 ~{XI} (in), 8 ~{FF} (out), 9 Q0 (out), 10 Q1 (out), 11 Q2 (out), 12 Q3 (out), 13 Q8 (out), 14 GND (power), 15 ~{R} (in), 16 Q4 (out), 17 Q5 (out), 18 Q6 (out), 19 Q7 (out), 20 ~{XO}/~{HF} (out), 21 ~{EF} (out), 22 ~{RS} (in), 23 ~{FL}/~{RT} (in), 24 D7 (in), 25 D6 (in), 26 D5 (in), 27 D4 (in), 28 VCC (power)

## DS2011N-50
designator U?
2048 X 9 FIFO Chip; PackageDocument: 1999; Published: 13-Oct-2000; LatestRevisionDate: 06-Jun-2005; LatestRevisionNote: Stylized 3D Model Added.; DatasheetDocument: 19-May-1994; PackageReference: DIP28W; Publisher: Altium Limited; ComponentLink1Description: Manufacturer Link; ComponentLink1URL: http://www.maxim-ic.com/
footprint DIP28W (DIP; 28 Leads; Row Spacing 15.24 mm; Pitch 2.54 mm)
3D model DIP28W (DIP; 28 Leads; Row Spacing 15.24 mm; Pitch 2.54 mm)
pins: 1 ~{W} (in), 2 D8 (in), 3 D3 (in), 4 D2 (in), 5 D1 (in), 6 D0 (in), 7 ~{XI} (in), 8 ~{FF} (out), 9 Q0 (out), 10 Q1 (out), 11 Q2 (out), 12 Q3 (out), 13 Q8 (out), 14 GND (power), 15 ~{R} (in), 16 Q4 (out), 17 Q5 (out), 18 Q6 (out), 19 Q7 (out), 20 ~{XO}/~{HF} (out), 21 ~{EF} (out), 22 ~{RS} (in), 23 ~{FL}/~{RT} (in), 24 D7 (in), 25 D6 (in), 26 D5 (in), 27 D4 (in), 28 VCC (power)

## DS2011R
designator U?
2048 X 9 FIFO Chip; Note: Pin numbers 1, 12, 17 and 27 are Not Connected (NC); Published: 13-Oct-2000; LatestRevisionDate: 17-Jul-2002; LatestRevisionNote: Re-released for DXP Platform.; DatasheetDocument: 19-May-1994; PackageDocument: Feb-1999; PackageReference: PLCC32; Publisher: Altium Limited; Code_JEDEC: MS-016-AE; Code_IPC: PLCC/R-32; ComponentLink1Description: Manufacturer Link; ComponentLink1URL: http://www.maxim-ic.com/
footprint PLCC32 (Leaded Chip Carrier; 32 Leads; Pitch 1.27 mm)
pins: 1 NC, 2 ~{W} (in), 3 D8 (in), 4 D3 (in), 5 D2 (in), 6 D1 (in), 7 D0 (in), 8 ~{XI} (in), 9 ~{FF} (out), 10 Q0 (out), 11 Q1 (out), 12 NC, 13 Q2 (out), 14 Q3 (out), 15 Q8 (out), 16 GND (power), 17 NC, 18 ~{R} (in), 19 Q4 (out), 20 Q5 (out), 21 Q6 (out), 22 Q7 (out), 23 ~{XO}/~{HF} (out), 24 ~{EF} (out), 25 ~{RS} (in), 26 ~{FL}/~{RT} (in), 27 NC, 28 D7 (in), 29 D6 (in), 30 D5 (in), 31 D4 (in), 32 VCC (power)

## DS2011R-50
designator U?
2048 X 9 FIFO Chip; Note: Pin numbers 1, 12, 17 and 27 are Not Connected (NC); Published: 13-Oct-2000; LatestRevisionDate: 17-Jul-2002; LatestRevisionNote: Re-released for DXP Platform.; DatasheetDocument: 19-May-1994; PackageDocument: Feb-1999; PackageReference: PLCC32; Publisher: Altium Limited; Code_JEDEC: MS-016-AE; Code_IPC: PLCC/R-32; ComponentLink1Description: Manufacturer Link; ComponentLink1URL: http://www.maxim-ic.com/
footprint PLCC32 (Leaded Chip Carrier; 32 Leads; Pitch 1.27 mm)
pins: 1 NC, 2 ~{W} (in), 3 D8 (in), 4 D3 (in), 5 D2 (in), 6 D1 (in), 7 D0 (in), 8 ~{XI} (in), 9 ~{FF} (out), 10 Q0 (out), 11 Q1 (out), 12 NC, 13 Q2 (out), 14 Q3 (out), 15 Q8 (out), 16 GND (power), 17 NC, 18 ~{R} (in), 19 Q4 (out), 20 Q5 (out), 21 Q6 (out), 22 Q7 (out), 23 ~{XO}/~{HF} (out), 24 ~{EF} (out), 25 ~{RS} (in), 26 ~{FL}/~{RT} (in), 27 NC, 28 D7 (in), 29 D6 (in), 30 D5 (in), 31 D4 (in), 32 VCC (power)

## DS2011R-65
designator U?
2048 X 9 FIFO Chip; Note: Pin numbers 1, 12, 17 and 27 are Not Connected (NC); Published: 13-Oct-2000; LatestRevisionDate: 17-Jul-2002; LatestRevisionNote: Re-released for DXP Platform.; DatasheetDocument: 19-May-1994; PackageDocument: Feb-1999; PackageReference: PLCC32; Publisher: Altium Limited; Code_JEDEC: MS-016-AE; Code_IPC: PLCC/R-32; ComponentLink1Description: Manufacturer Link; ComponentLink1URL: http://www.maxim-ic.com/
footprint PLCC32 (Leaded Chip Carrier; 32 Leads; Pitch 1.27 mm)
pins: 1 NC, 2 ~{W} (in), 3 D8 (in), 4 D3 (in), 5 D2 (in), 6 D1 (in), 7 D0 (in), 8 ~{XI} (in), 9 ~{FF} (out), 10 Q0 (out), 11 Q1 (out), 12 NC, 13 Q2 (out), 14 Q3 (out), 15 Q8 (out), 16 GND (power), 17 NC, 18 ~{R} (in), 19 Q4 (out), 20 Q5 (out), 21 Q6 (out), 22 Q7 (out), 23 ~{XO}/~{HF} (out), 24 ~{EF} (out), 25 ~{RS} (in), 26 ~{FL}/~{RT} (in), 27 NC, 28 D7 (in), 29 D6 (in), 30 D5 (in), 31 D4 (in), 32 VCC (power)

## DS2011R-80
designator U?
2048 X 9 FIFO Chip; Note: Pin numbers 1, 12, 17 and 27 are Not Connected (NC); Published: 13-Oct-2000; LatestRevisionDate: 17-Jul-2002; LatestRevisionNote: Re-released for DXP Platform.; DatasheetDocument: 19-May-1994; PackageDocument: Feb-1999; PackageReference: PLCC32; Publisher: Altium Limited; Code_JEDEC: MS-016-AE; Code_IPC: PLCC/R-32; ComponentLink1Description: Manufacturer Link; ComponentLink1URL: http://www.maxim-ic.com/
footprint PLCC32 (Leaded Chip Carrier; 32 Leads; Pitch 1.27 mm)
pins: 1 NC, 2 ~{W} (in), 3 D8 (in), 4 D3 (in), 5 D2 (in), 6 D1 (in), 7 D0 (in), 8 ~{XI} (in), 9 ~{FF} (out), 10 Q0 (out), 11 Q1 (out), 12 NC, 13 Q2 (out), 14 Q3 (out), 15 Q8 (out), 16 GND (power), 17 NC, 18 ~{R} (in), 19 Q4 (out), 20 Q5 (out), 21 Q6 (out), 22 Q7 (out), 23 ~{XO}/~{HF} (out), 24 ~{EF} (out), 25 ~{RS} (in), 26 ~{FL}/~{RT} (in), 27 NC, 28 D7 (in), 29 D6 (in), 30 D5 (in), 31 D4 (in), 32 VCC (power)

## DS2011RN-50
designator U?
2048 X 9 FIFO Chip; Note: Pin numbers 1, 12, 17 and 27 are Not Connected (NC); Published: 13-Oct-2000; LatestRevisionDate: 17-Jul-2002; LatestRevisionNote: Re-released for DXP Platform.; DatasheetDocument: 19-May-1994; PackageDocument: Feb-1999; PackageReference: PLCC32; Publisher: Altium Limited; Code_JEDEC: MS-016-AE; Code_IPC: PLCC/R-32; ComponentLink1Description: Manufacturer Link; ComponentLink1URL: http://www.maxim-ic.com/
footprint PLCC32 (Leaded Chip Carrier; 32 Leads; Pitch 1.27 mm)
pins: 1 NC, 2 ~{W} (in), 3 D8 (in), 4 D3 (in), 5 D2 (in), 6 D1 (in), 7 D0 (in), 8 ~{XI} (in), 9 ~{FF} (out), 10 Q0 (out), 11 Q1 (out), 12 NC, 13 Q2 (out), 14 Q3 (out), 15 Q8 (out), 16 GND (power), 17 NC, 18 ~{R} (in), 19 Q4 (out), 20 Q5 (out), 21 Q6 (out), 22 Q7 (out), 23 ~{XO}/~{HF} (out), 24 ~{EF} (out), 25 ~{RS} (in), 26 ~{FL}/~{RT} (in), 27 NC, 28 D7 (in), 29 D6 (in), 30 D5 (in), 31 D4 (in), 32 VCC (power)

## DS2012
designator U?
4096 X 9 FIFO Chip; PackageDocument: 1999; Published: 13-Oct-2000; LatestRevisionDate: 06-Jun-2005; LatestRevisionNote: Stylized 3D Model Added.; DatasheetDocument: 22-Jan-1992; PackageReference: DIP28W; Publisher: Altium Limited; ComponentLink1Description: Manufacturer Link; ComponentLink1URL: http://www.maxim-ic.com/
footprint DIP28W (DIP; 28 Leads; Row Spacing 15.24 mm; Pitch 2.54 mm)
3D model DIP28W (DIP; 28 Leads; Row Spacing 15.24 mm; Pitch 2.54 mm)
pins: 1 ~{W} (in), 2 D8 (in), 3 D3 (in), 4 D2 (in), 5 D1 (in), 6 D0 (in), 7 ~{XI} (in), 8 ~{FF} (out), 9 Q0 (out), 10 Q1 (out), 11 Q2 (out), 12 Q3 (out), 13 Q8 (out), 14 GND (power), 15 ~{R} (in), 16 Q4 (out), 17 Q5 (out), 18 Q6 (out), 19 Q7 (out), 20 ~{XO}/~{HF} (out), 21 ~{EF} (out), 22 ~{RS} (in), 23 ~{FL}/~{RT} (in), 24 D7 (in), 25 D6 (in), 26 D5 (in), 27 D4 (in), 28 VCC (power)

## DS2012-50
designator U?
4096 X 9 FIFO Chip; PackageDocument: 1999; Published: 13-Oct-2000; LatestRevisionDate: 06-Jun-2005; LatestRevisionNote: Stylized 3D Model Added.; DatasheetDocument: 22-Jan-1992; PackageReference: DIP28W; Publisher: Altium Limited; ComponentLink1Description: Manufacturer Link; ComponentLink1URL: http://www.maxim-ic.com/
footprint DIP28W (DIP; 28 Leads; Row Spacing 15.24 mm; Pitch 2.54 mm)
3D model DIP28W (DIP; 28 Leads; Row Spacing 15.24 mm; Pitch 2.54 mm)
pins: 1 ~{W} (in), 2 D8 (in), 3 D3 (in), 4 D2 (in), 5 D1 (in), 6 D0 (in), 7 ~{XI} (in), 8 ~{FF} (out), 9 Q0 (out), 10 Q1 (out), 11 Q2 (out), 12 Q3 (out), 13 Q8 (out), 14 GND (power), 15 ~{R} (in), 16 Q4 (out), 17 Q5 (out), 18 Q6 (out), 19 Q7 (out), 20 ~{XO}/~{HF} (out), 21 ~{EF} (out), 22 ~{RS} (in), 23 ~{FL}/~{RT} (in), 24 D7 (in), 25 D6 (in), 26 D5 (in), 27 D4 (in), 28 VCC (power)

## DS2012-65
designator U?
4096 X 9 FIFO Chip; PackageDocument: 1999; Published: 13-Oct-2000; LatestRevisionDate: 06-Jun-2005; LatestRevisionNote: Stylized 3D Model Added.; DatasheetDocument: 22-Jan-1992; PackageReference: DIP28W; Publisher: Altium Limited; ComponentLink1Description: Manufacturer Link; ComponentLink1URL: http://www.maxim-ic.com/
footprint DIP28W (DIP; 28 Leads; Row Spacing 15.24 mm; Pitch 2.54 mm)
3D model DIP28W (DIP; 28 Leads; Row Spacing 15.24 mm; Pitch 2.54 mm)
pins: 1 ~{W} (in), 2 D8 (in), 3 D3 (in), 4 D2 (in), 5 D1 (in), 6 D0 (in), 7 ~{XI} (in), 8 ~{FF} (out), 9 Q0 (out), 10 Q1 (out), 11 Q2 (out), 12 Q3 (out), 13 Q8 (out), 14 GND (power), 15 ~{R} (in), 16 Q4 (out), 17 Q5 (out), 18 Q6 (out), 19 Q7 (out), 20 ~{XO}/~{HF} (out), 21 ~{EF} (out), 22 ~{RS} (in), 23 ~{FL}/~{RT} (in), 24 D7 (in), 25 D6 (in), 26 D5 (in), 27 D4 (in), 28 VCC (power)

## DS2012-80
designator U?
4096 X 9 FIFO Chip; PackageDocument: 1999; Published: 13-Oct-2000; LatestRevisionDate: 06-Jun-2005; LatestRevisionNote: Stylized 3D Model Added.; DatasheetDocument: 22-Jan-1992; PackageReference: DIP28W; Publisher: Altium Limited; ComponentLink1Description: Manufacturer Link; ComponentLink1URL: http://www.maxim-ic.com/
footprint DIP28W (DIP; 28 Leads; Row Spacing 15.24 mm; Pitch 2.54 mm)
3D model DIP28W (DIP; 28 Leads; Row Spacing 15.24 mm; Pitch 2.54 mm)
pins: 1 ~{W} (in), 2 D8 (in), 3 D3 (in), 4 D2 (in), 5 D1 (in), 6 D0 (in), 7 ~{XI} (in), 8 ~{FF} (out), 9 Q0 (out), 10 Q1 (out), 11 Q2 (out), 12 Q3 (out), 13 Q8 (out), 14 GND (power), 15 ~{R} (in), 16 Q4 (out), 17 Q5 (out), 18 Q6 (out), 19 Q7 (out), 20 ~{XO}/~{HF} (out), 21 ~{EF} (out), 22 ~{RS} (in), 23 ~{FL}/~{RT} (in), 24 D7 (in), 25 D6 (in), 26 D5 (in), 27 D4 (in), 28 VCC (power)

## DS2012N-50
designator U?
4096 X 9 FIFO Chip; PackageDocument: 1999; Published: 13-Oct-2000; LatestRevisionDate: 06-Jun-2005; LatestRevisionNote: Stylized 3D Model Added.; DatasheetDocument: 22-Jan-1992; PackageReference: DIP28W; Publisher: Altium Limited; ComponentLink1Description: Manufacturer Link; ComponentLink1URL: http://www.maxim-ic.com/
footprint DIP28W (DIP; 28 Leads; Row Spacing 15.24 mm; Pitch 2.54 mm)
3D model DIP28W (DIP; 28 Leads; Row Spacing 15.24 mm; Pitch 2.54 mm)
pins: 1 ~{W} (in), 2 D8 (in), 3 D3 (in), 4 D2 (in), 5 D1 (in), 6 D0 (in), 7 ~{XI} (in), 8 ~{FF} (out), 9 Q0 (out), 10 Q1 (out), 11 Q2 (out), 12 Q3 (out), 13 Q8 (out), 14 GND (power), 15 ~{R} (in), 16 Q4 (out), 17 Q5 (out), 18 Q6 (out), 19 Q7 (out), 20 ~{XO}/~{HF} (out), 21 ~{EF} (out), 22 ~{RS} (in), 23 ~{FL}/~{RT} (in), 24 D7 (in), 25 D6 (in), 26 D5 (in), 27 D4 (in), 28 VCC (power)

## DS2012R
designator U?
4096 X 9 FIFO Chip; Note: Pin numbers 1, 12, 17 and 27 are Not Connected (NC); Published: 13-Oct-2000; LatestRevisionDate: 17-Jul-2002; LatestRevisionNote: Re-released for DXP Platform.; DatasheetDocument: 22-Jan-1992; PackageDocument: Feb-1999; PackageReference: PLCC32; Publisher: Altium Limited; Code_JEDEC: MS-016-AE; Code_IPC: PLCC/R-32; ComponentLink1Description: Manufacturer Link; ComponentLink1URL: http://www.maxim-ic.com/
footprint PLCC32 (Leaded Chip Carrier; 32 Leads; Pitch 1.27 mm)
pins: 1 NC, 2 ~{W} (in), 3 D8 (in), 4 D3 (in), 5 D2 (in), 6 D1 (in), 7 D0 (in), 8 ~{XI} (in), 9 ~{FF} (out), 10 Q0 (out), 11 Q1 (out), 12 NC, 13 Q2 (out), 14 Q3 (out), 15 Q8 (out), 16 GND (power), 17 NC, 18 ~{R} (in), 19 Q4 (out), 20 Q5 (out), 21 Q6 (out), 22 Q7 (out), 23 ~{XO}/~{HF} (out), 24 ~{EF} (out), 25 ~{RS} (in), 26 ~{FL}/~{RT} (in), 27 NC, 28 D7 (in), 29 D6 (in), 30 D5 (in), 31 D4 (in), 32 VCC (power)

## DS2012R-50
designator U?
4096 X 9 FIFO Chip; Note: Pin numbers 1, 12, 17 and 27 are Not Connected (NC); Published: 13-Oct-2000; LatestRevisionDate: 17-Jul-2002; LatestRevisionNote: Re-released for DXP Platform.; DatasheetDocument: 22-Jan-1992; PackageDocument: Feb-1999; PackageReference: PLCC32; Publisher: Altium Limited; Code_JEDEC: MS-016-AE; Code_IPC: PLCC/R-32; ComponentLink1Description: Manufacturer Link; ComponentLink1URL: http://www.maxim-ic.com/
footprint PLCC32 (Leaded Chip Carrier; 32 Leads; Pitch 1.27 mm)
pins: 1 NC, 2 ~{W} (in), 3 D8 (in), 4 D3 (in), 5 D2 (in), 6 D1 (in), 7 D0 (in), 8 ~{XI} (in), 9 ~{FF} (out), 10 Q0 (out), 11 Q1 (out), 12 NC, 13 Q2 (out), 14 Q3 (out), 15 Q8 (out), 16 GND (power), 17 NC, 18 ~{R} (in), 19 Q4 (out), 20 Q5 (out), 21 Q6 (out), 22 Q7 (out), 23 ~{XO}/~{HF} (out), 24 ~{EF} (out), 25 ~{RS} (in), 26 ~{FL}/~{RT} (in), 27 NC, 28 D7 (in), 29 D6 (in), 30 D5 (in), 31 D4 (in), 32 VCC (power)

## DS2012R-65
designator U?
4096 X 9 FIFO Chip; Note: Pin numbers 1, 12, 17 and 27 are Not Connected (NC); Published: 13-Oct-2000; LatestRevisionDate: 17-Jul-2002; LatestRevisionNote: Re-released for DXP Platform.; DatasheetDocument: 22-Jan-1992; PackageDocument: Feb-1999; PackageReference: PLCC32; Publisher: Altium Limited; Code_JEDEC: MS-016-AE; Code_IPC: PLCC/R-32; ComponentLink1Description: Manufacturer Link; ComponentLink1URL: http://www.maxim-ic.com/
footprint PLCC32 (Leaded Chip Carrier; 32 Leads; Pitch 1.27 mm)
pins: 1 NC, 2 ~{W} (in), 3 D8 (in), 4 D3 (in), 5 D2 (in), 6 D1 (in), 7 D0 (in), 8 ~{XI} (in), 9 ~{FF} (out), 10 Q0 (out), 11 Q1 (out), 12 NC, 13 Q2 (out), 14 Q3 (out), 15 Q8 (out), 16 GND (power), 17 NC, 18 ~{R} (in), 19 Q4 (out), 20 Q5 (out), 21 Q6 (out), 22 Q7 (out), 23 ~{XO}/~{HF} (out), 24 ~{EF} (out), 25 ~{RS} (in), 26 ~{FL}/~{RT} (in), 27 NC, 28 D7 (in), 29 D6 (in), 30 D5 (in), 31 D4 (in), 32 VCC (power)

## DS2012R-80
designator U?
4096 X 9 FIFO Chip; Note: Pin numbers 1, 12, 17 and 27 are Not Connected (NC); Published: 13-Oct-2000; LatestRevisionDate: 17-Jul-2002; LatestRevisionNote: Re-released for DXP Platform.; DatasheetDocument: 22-Jan-1992; PackageDocument: Feb-1999; PackageReference: PLCC32; Publisher: Altium Limited; Code_JEDEC: MS-016-AE; Code_IPC: PLCC/R-32; ComponentLink1Description: Manufacturer Link; ComponentLink1URL: http://www.maxim-ic.com/
footprint PLCC32 (Leaded Chip Carrier; 32 Leads; Pitch 1.27 mm)
pins: 1 NC, 2 ~{W} (in), 3 D8 (in), 4 D3 (in), 5 D2 (in), 6 D1 (in), 7 D0 (in), 8 ~{XI} (in), 9 ~{FF} (out), 10 Q0 (out), 11 Q1 (out), 12 NC, 13 Q2 (out), 14 Q3 (out), 15 Q8 (out), 16 GND (power), 17 NC, 18 ~{R} (in), 19 Q4 (out), 20 Q5 (out), 21 Q6 (out), 22 Q7 (out), 23 ~{XO}/~{HF} (out), 24 ~{EF} (out), 25 ~{RS} (in), 26 ~{FL}/~{RT} (in), 27 NC, 28 D7 (in), 29 D6 (in), 30 D5 (in), 31 D4 (in), 32 VCC (power)

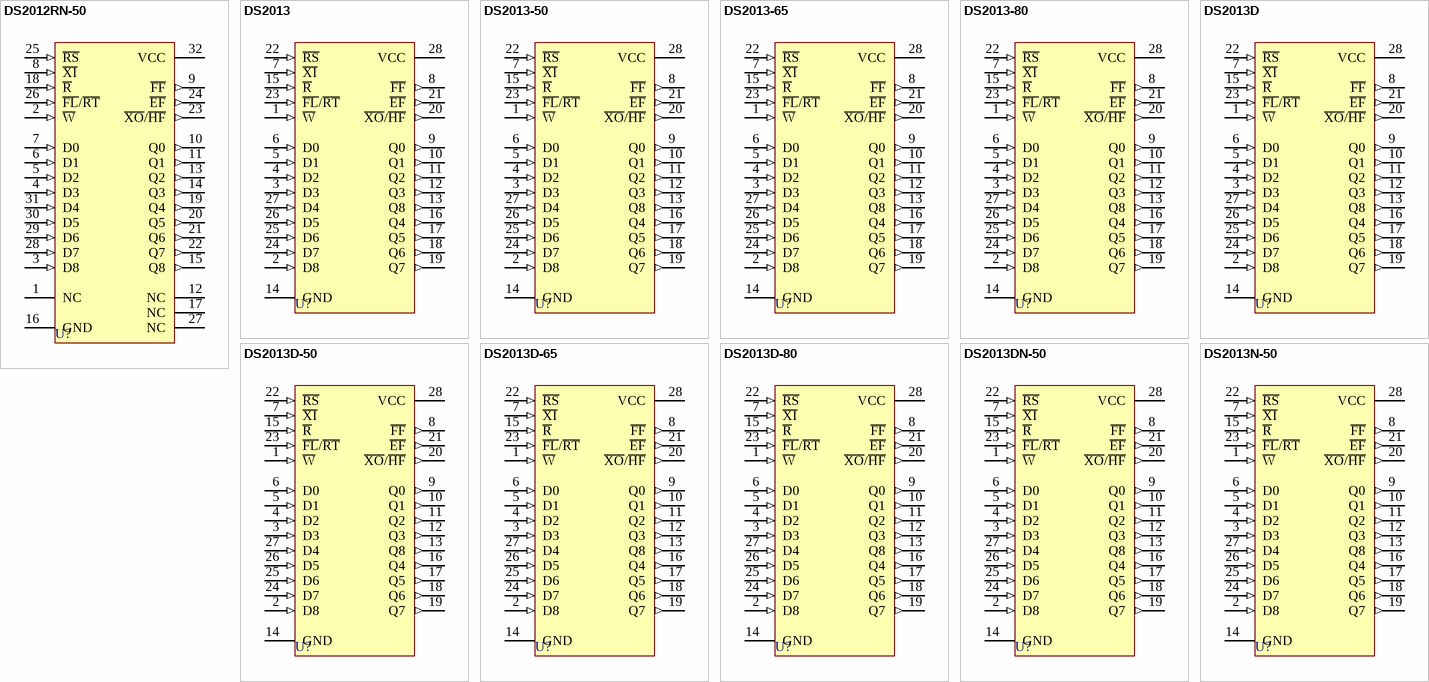
[diagram p2: symbols DS2012RN-50 to DS2013N-50]

## DS2012RN-50
designator U?
4096 X 9 FIFO Chip; Note: Pin numbers 1, 12, 17 and 27 are Not Connected (NC); Published: 13-Oct-2000; LatestRevisionDate: 17-Jul-2002; LatestRevisionNote: Re-released for DXP Platform.; DatasheetDocument: 22-Jan-1992; PackageDocument: Feb-1999; PackageReference: PLCC32; Publisher: Altium Limited; Code_JEDEC: MS-016-AE; Code_IPC: PLCC/R-32; ComponentLink1Description: Manufacturer Link; ComponentLink1URL: http://www.maxim-ic.com/
footprint PLCC32 (Leaded Chip Carrier; 32 Leads; Pitch 1.27 mm)
pins: 1 NC, 2 ~{W} (in), 3 D8 (in), 4 D3 (in), 5 D2 (in), 6 D1 (in), 7 D0 (in), 8 ~{XI} (in), 9 ~{FF} (out), 10 Q0 (out), 11 Q1 (out), 12 NC, 13 Q2 (out), 14 Q3 (out), 15 Q8 (out), 16 GND (power), 17 NC, 18 ~{R} (in), 19 Q4 (out), 20 Q5 (out), 21 Q6 (out), 22 Q7 (out), 23 ~{XO}/~{HF} (out), 24 ~{EF} (out), 25 ~{RS} (in), 26 ~{FL}/~{RT} (in), 27 NC, 28 D7 (in), 29 D6 (in), 30 D5 (in), 31 D4 (in), 32 VCC (power)

## DS2013
designator U?
8192 X 9 FIFO Chip; PackageDocument: 1999; Published: 13-Oct-2000; LatestRevisionDate: 06-Jun-2005; LatestRevisionNote: Stylized 3D Model Added.; DatasheetDocument: 13-Jan-1992; PackageReference: DIP28W; Publisher: Altium Limited; ComponentLink1Description: Manufacturer Link; ComponentLink1URL: http://www.maxim-ic.com/
footprint DIP28W (DIP; 28 Leads; Row Spacing 15.24 mm; Pitch 2.54 mm)
3D model DIP28W (DIP; 28 Leads; Row Spacing 15.24 mm; Pitch 2.54 mm)
pins: 1 ~{W} (in), 2 D8 (in), 3 D3 (in), 4 D2 (in), 5 D1 (in), 6 D0 (in), 7 ~{XI} (in), 8 ~{FF} (out), 9 Q0 (out), 10 Q1 (out), 11 Q2 (out), 12 Q3 (out), 13 Q8 (out), 14 GND (power), 15 ~{R} (in), 16 Q4 (out), 17 Q5 (out), 18 Q6 (out), 19 Q7 (out), 20 ~{XO}/~{HF} (out), 21 ~{EF} (out), 22 ~{RS} (in), 23 ~{FL}/~{RT} (in), 24 D7 (in), 25 D6 (in), 26 D5 (in), 27 D4 (in), 28 VCC (power)

## DS2013-50
designator U?
8192 X 9 FIFO Chip; PackageDocument: 1999; Published: 13-Oct-2000; LatestRevisionDate: 06-Jun-2005; LatestRevisionNote: Stylized 3D Model Added.; DatasheetDocument: 13-Jan-1992; PackageReference: DIP28W; Publisher: Altium Limited; ComponentLink1Description: Manufacturer Link; ComponentLink1URL: http://www.maxim-ic.com/
footprint DIP28W (DIP; 28 Leads; Row Spacing 15.24 mm; Pitch 2.54 mm)
3D model DIP28W (DIP; 28 Leads; Row Spacing 15.24 mm; Pitch 2.54 mm)
pins: 1 ~{W} (in), 2 D8 (in), 3 D3 (in), 4 D2 (in), 5 D1 (in), 6 D0 (in), 7 ~{XI} (in), 8 ~{FF} (out), 9 Q0 (out), 10 Q1 (out), 11 Q2 (out), 12 Q3 (out), 13 Q8 (out), 14 GND (power), 15 ~{R} (in), 16 Q4 (out), 17 Q5 (out), 18 Q6 (out), 19 Q7 (out), 20 ~{XO}/~{HF} (out), 21 ~{EF} (out), 22 ~{RS} (in), 23 ~{FL}/~{RT} (in), 24 D7 (in), 25 D6 (in), 26 D5 (in), 27 D4 (in), 28 VCC (power)

## DS2013-65
designator U?
8192 X 9 FIFO Chip; PackageDocument: 1999; Published: 13-Oct-2000; LatestRevisionDate: 06-Jun-2005; LatestRevisionNote: Stylized 3D Model Added.; DatasheetDocument: 13-Jan-1992; PackageReference: DIP28W; Publisher: Altium Limited; ComponentLink1Description: Manufacturer Link; ComponentLink1URL: http://www.maxim-ic.com/
footprint DIP28W (DIP; 28 Leads; Row Spacing 15.24 mm; Pitch 2.54 mm)
3D model DIP28W (DIP; 28 Leads; Row Spacing 15.24 mm; Pitch 2.54 mm)
pins: 1 ~{W} (in), 2 D8 (in), 3 D3 (in), 4 D2 (in), 5 D1 (in), 6 D0 (in), 7 ~{XI} (in), 8 ~{FF} (out), 9 Q0 (out), 10 Q1 (out), 11 Q2 (out), 12 Q3 (out), 13 Q8 (out), 14 GND (power), 15 ~{R} (in), 16 Q4 (out), 17 Q5 (out), 18 Q6 (out), 19 Q7 (out), 20 ~{XO}/~{HF} (out), 21 ~{EF} (out), 22 ~{RS} (in), 23 ~{FL}/~{RT} (in), 24 D7 (in), 25 D6 (in), 26 D5 (in), 27 D4 (in), 28 VCC (power)

## DS2013-80
designator U?
8192 X 9 FIFO Chip; PackageDocument: 1999; Published: 13-Oct-2000; LatestRevisionDate: 06-Jun-2005; LatestRevisionNote: Stylized 3D Model Added.; DatasheetDocument: 13-Jan-1992; PackageReference: DIP28W; Publisher: Altium Limited; ComponentLink1Description: Manufacturer Link; ComponentLink1URL: http://www.maxim-ic.com/
footprint DIP28W (DIP; 28 Leads; Row Spacing 15.24 mm; Pitch 2.54 mm)
3D model DIP28W (DIP; 28 Leads; Row Spacing 15.24 mm; Pitch 2.54 mm)
pins: 1 ~{W} (in), 2 D8 (in), 3 D3 (in), 4 D2 (in), 5 D1 (in), 6 D0 (in), 7 ~{XI} (in), 8 ~{FF} (out), 9 Q0 (out), 10 Q1 (out), 11 Q2 (out), 12 Q3 (out), 13 Q8 (out), 14 GND (power), 15 ~{R} (in), 16 Q4 (out), 17 Q5 (out), 18 Q6 (out), 19 Q7 (out), 20 ~{XO}/~{HF} (out), 21 ~{EF} (out), 22 ~{RS} (in), 23 ~{FL}/~{RT} (in), 24 D7 (in), 25 D6 (in), 26 D5 (in), 27 D4 (in), 28 VCC (power)

## DS2013D
designator U?
8192 X 9 FIFO Chip; PackageDocument: 1999; Published: 13-Oct-2000; LatestRevisionDate: 06-Jun-2005; LatestRevisionNote: Stylized 3D Model Added.; DatasheetDocument: 13-Jan-1992; PackageReference: DIP28N; Publisher: Altium Limited; ComponentLink1Description: Manufacturer Link; ComponentLink1URL: http://www.maxim-ic.com/
footprint DIP28N (DIP; 28 Leads; Row Spacing 7.62 mm; Pitch 2.54 mm)
3D model DIP28N (DIP; 28 Leads; Row Spacing 7.62 mm; Pitch 2.54 mm)
pins: 1 ~{W} (in), 2 D8 (in), 3 D3 (in), 4 D2 (in), 5 D1 (in), 6 D0 (in), 7 ~{XI} (in), 8 ~{FF} (out), 9 Q0 (out), 10 Q1 (out), 11 Q2 (out), 12 Q3 (out), 13 Q8 (out), 14 GND (power), 15 ~{R} (in), 16 Q4 (out), 17 Q5 (out), 18 Q6 (out), 19 Q7 (out), 20 ~{XO}/~{HF} (out), 21 ~{EF} (out), 22 ~{RS} (in), 23 ~{FL}/~{RT} (in), 24 D7 (in), 25 D6 (in), 26 D5 (in), 27 D4 (in), 28 VCC (power)

## DS2013D-50
designator U?
8192 X 9 FIFO Chip; PackageDocument: 1999; Published: 13-Oct-2000; LatestRevisionDate: 06-Jun-2005; LatestRevisionNote: Stylized 3D Model Added.; DatasheetDocument: 13-Jan-1992; PackageReference: DIP28N; Publisher: Altium Limited; ComponentLink1Description: Manufacturer Link; ComponentLink1URL: http://www.maxim-ic.com/
footprint DIP28N (DIP; 28 Leads; Row Spacing 7.62 mm; Pitch 2.54 mm)
3D model DIP28N (DIP; 28 Leads; Row Spacing 7.62 mm; Pitch 2.54 mm)
pins: 1 ~{W} (in), 2 D8 (in), 3 D3 (in), 4 D2 (in), 5 D1 (in), 6 D0 (in), 7 ~{XI} (in), 8 ~{FF} (out), 9 Q0 (out), 10 Q1 (out), 11 Q2 (out), 12 Q3 (out), 13 Q8 (out), 14 GND (power), 15 ~{R} (in), 16 Q4 (out), 17 Q5 (out), 18 Q6 (out), 19 Q7 (out), 20 ~{XO}/~{HF} (out), 21 ~{EF} (out), 22 ~{RS} (in), 23 ~{FL}/~{RT} (in), 24 D7 (in), 25 D6 (in), 26 D5 (in), 27 D4 (in), 28 VCC (power)